# EAGLE library part BMA250E (library acceleration_sensor)
Bosch Triaxial Acceleraration Sensor 2g,4g,8g,16g 3-wire,4-wire,I2C,SPI 1.2V ~ 3.6V
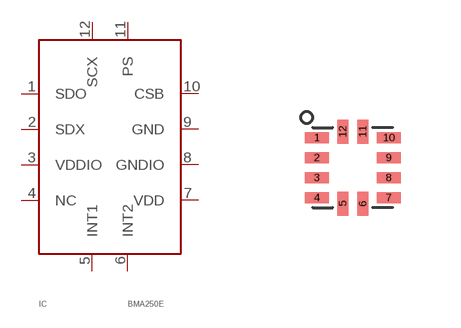
[diagram p0: symbol with the pads of LGA-12; footprint LGA-12]

Designator prefix IC

## BMA250E  [LGA-12]
1  SDO
2  SDX
3  VDDIO
4  NC
5  INT1
6  INT2
7  VDD
8  GNDIO
9  GND
10  CSB
11  PS
12  SCX

## Footprint LGA-12 (pad centres in mm)
smd 0.6 x 0.28: 1 -0.9,0.75; 2 -0.9,0.25; 3 -0.9,-0.25; 4 -0.9,-0.75; 7 0.9,-0.75; 8 0.9,-0.25; 9 0.9,0.25; 10 0.9,0.75
smd 0.28 x 0.6: 5 -0.25,-0.9; 6 0.25,-0.9; 11 0.25,0.9; 12 -0.25,0.9